# Altium schematic symbol library Converter_ACDC.SchLib: 137 symbols (part 1 of 2)
Pins are listed as number, name and electrical type; pins without a type are passive.

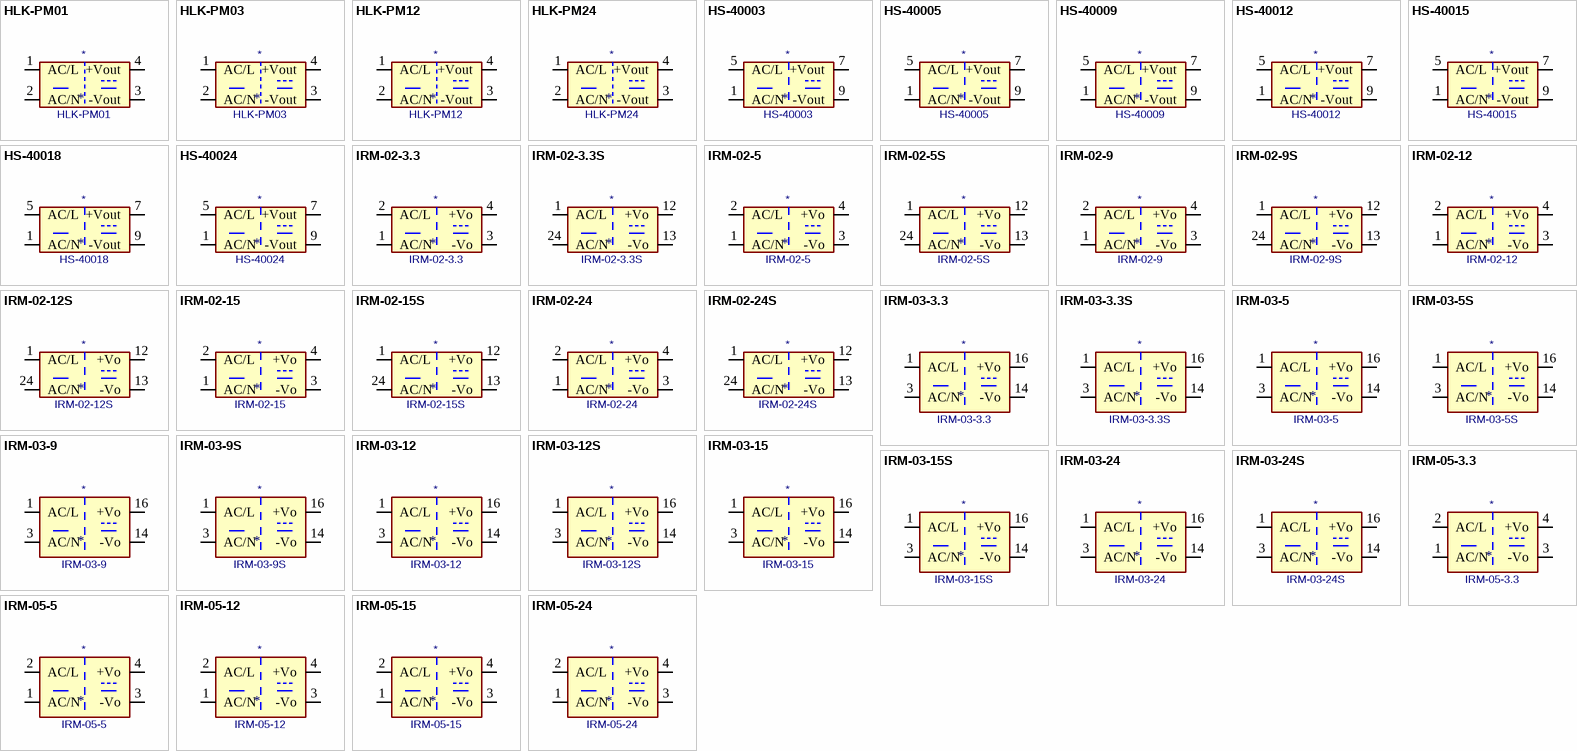
[diagram p0: symbols HLK-PM01 to IRM-05-24]

## HLK-PM01
designator *  value HLK-PM01
ki_keywords: AC/DC module power supply; ki_description: Compact AC/DC board mount power module 3W 5V; ki_fp_filters: Converter*ACDC*HiLink*HLK?PM*; Footprint: Converter_ACDC:Converter_ACDC_HiLink_HLK-PMxx; Supplier: http://www.hlktech.net/product_detail.php?ProId=54
footprint Converter_ACDC_HiLink_HLK-PMxx
pins: 1 AC/L (power), 2 AC/N (power), 3 -Vout (power), 4 +Vout (power)

## HLK-PM03
designator *  value HLK-PM03
ki_keywords: AC/DC module power supply; ki_description: Compact AC/DC board mount power module 3W 3V3; ki_fp_filters: Converter*ACDC*HiLink*HLK?PM*; Footprint: Converter_ACDC:Converter_ACDC_HiLink_HLK-PMxx; Supplier: http://www.hlktech.net/product_detail.php?ProId=59
footprint Converter_ACDC_HiLink_HLK-PMxx
pins: 1 AC/L (power), 2 AC/N (power), 3 -Vout (power), 4 +Vout (power)

## HLK-PM12
designator *  value HLK-PM12
ki_keywords: AC/DC module power supply; ki_description: Compact AC/DC board mount power module 3W 12V; ki_fp_filters: Converter*ACDC*HiLink*HLK?PM*; Footprint: Converter_ACDC:Converter_ACDC_HiLink_HLK-PMxx; Supplier: http://www.hlktech.net/product_detail.php?ProId=56
footprint Converter_ACDC_HiLink_HLK-PMxx
pins: 1 AC/L (power), 2 AC/N (power), 3 -Vout (power), 4 +Vout (power)

## HLK-PM24
designator *  value HLK-PM24
ki_keywords: AC/DC module power supply; ki_description: Compact AC/DC board mount power module 3W 24V; ki_fp_filters: Converter*ACDC*HiLink*HLK?PM*; Footprint: Converter_ACDC:Converter_ACDC_HiLink_HLK-PMxx; Supplier: http://www.hlktech.net/product_detail.php?ProId=81
footprint Converter_ACDC_HiLink_HLK-PMxx
pins: 1 AC/L (power), 2 AC/N (power), 3 -Vout (power), 4 +Vout (power)

## HS-40003
designator *  value HS-40003
ki_keywords: 3.3V 3W AC-DC module power supply; ki_description: 3.3V, 3W, AC-DC module power supply, Hahn; ki_fp_filters: Converter*ACDC*Hahn*HS*400xx*; Footprint: Converter_ACDC:Converter_ACDC_Hahn_HS-400xx_THT; Supplier: http://www.tme.eu/de/Document/d4b3c52125889c3435af182c9515c76b/HS40003.pdf
footprint Converter_ACDC_Hahn_HS-400xx_THT
pins: 1 AC/N (power), 5 AC/L (power), 7 +Vout (power), 9 -Vout (power)

## HS-40005
designator *  value HS-40005
ki_keywords: 5V 3W AC-DC module power supply; ki_description: 5V, 3W, AC-DC module power supply, Hahn; ki_fp_filters: Converter*ACDC*Hahn*HS*400xx*; Footprint: Converter_ACDC:Converter_ACDC_Hahn_HS-400xx_THT; Supplier: http://www.tme.eu/de/Document/996b08915f81126361ce1f9c12d2f8b9/HS40005.pdf
footprint Converter_ACDC_Hahn_HS-400xx_THT
pins: 1 AC/N (power), 5 AC/L (power), 7 +Vout (power), 9 -Vout (power)

## HS-40009
designator *  value HS-40009
ki_keywords: 9V 3W AC-DC module power supply; ki_description: 9V, 3W, AC-DC module power supply, Hahn; ki_fp_filters: Converter*ACDC*Hahn*HS*400xx*; Footprint: Converter_ACDC:Converter_ACDC_Hahn_HS-400xx_THT; Supplier: http://www.tme.eu/de/Document/cd3ff0c74e0c3bb183174aa10baf8730/HS40009.pdf
footprint Converter_ACDC_Hahn_HS-400xx_THT
pins: 1 AC/N (power), 5 AC/L (power), 7 +Vout (power), 9 -Vout (power)

## HS-40012
designator *  value HS-40012
ki_keywords: 12V 3W AC-DC module power supply; ki_description: 12V, 3W, AC-DC module power supply, Hahn; ki_fp_filters: Converter*ACDC*Hahn*HS*400xx*; Footprint: Converter_ACDC:Converter_ACDC_Hahn_HS-400xx_THT; Supplier: http://www.tme.eu/de/Document/221b247820f4fbb72e0cbc1ee10acb85/HS40012.pdf
footprint Converter_ACDC_Hahn_HS-400xx_THT
pins: 1 AC/N (power), 5 AC/L (power), 7 +Vout (power), 9 -Vout (power)

## HS-40015
designator *  value HS-40015
ki_keywords: 15V 3W AC-DC module power supply; ki_description: 15V, 3W, AC-DC module power supply, Hahn; ki_fp_filters: Converter*ACDC*Hahn*HS*400xx*; Footprint: Converter_ACDC:Converter_ACDC_Hahn_HS-400xx_THT; Supplier: https://www.schukat.com/schukat/pdf.nsf/index/956F3869A8D071A1C1257B810041B129/$file/HS-40015-Serie%20Schemazeichnung-A3%20(1).pdf
footprint Converter_ACDC_Hahn_HS-400xx_THT
pins: 1 AC/N (power), 5 AC/L (power), 7 +Vout (power), 9 -Vout (power)

## HS-40018
designator *  value HS-40018
ki_keywords: 18V 3W AC-DC module power supply; ki_description: 18V, 3W, AC-DC module power supply, Hahn; ki_fp_filters: Converter*ACDC*Hahn*HS*400xx*; Footprint: Converter_ACDC:Converter_ACDC_Hahn_HS-400xx_THT; Supplier: https://www.schukat.com/schukat/pdf.nsf/index/6A4EEAC16DA84B74C1257B810041DC7B/$file/HS-40018-Serie%20Schemazeichnung-A3%20(1).pdf
footprint Converter_ACDC_Hahn_HS-400xx_THT
pins: 1 AC/N (power), 5 AC/L (power), 7 +Vout (power), 9 -Vout (power)

## HS-40024
designator *  value HS-40024
ki_keywords: 24V 3W AC-DC module power supply; ki_description: 24V, 3W, AC-DC module power supply, Hahn; ki_fp_filters: Converter*ACDC*Hahn*HS*400xx*; Footprint: Converter_ACDC:Converter_ACDC_Hahn_HS-400xx_THT; Supplier: https://www.schukat.com/schukat/pdf.nsf/index/17647BA7403E2D39C1257B810041F34E/$file/HS-40024-Serie%20Schemazeichnung-A3%20(1).pdf
footprint Converter_ACDC_Hahn_HS-400xx_THT
pins: 1 AC/N (power), 5 AC/L (power), 7 +Vout (power), 9 -Vout (power)

## IRM-02-3.3
designator *  value IRM-02-3.3
ki_keywords: Miniature Module-type Power Supply MeanWell; ki_description: 3.3V, 600mA, 2W, Isolated, AC-DC, IRM02; ki_fp_filters: Converter*ACDC*MeanWell*IRM*02*THT*; Footprint: Converter_ACDC:Converter_ACDC_MeanWell_IRM-02-xx_THT; Supplier: https://www.meanwell.com/Upload/PDF/IRM-02/IRM-02-SPEC.PDF
footprint Converter_ACDC_MeanWell_IRM-02-xx_THT
pins: 1 AC/N (power), 2 AC/L (power), 3 -Vo (power), 4 +Vo (power)

## IRM-02-3.3S
designator *  value IRM-02-3.3S
ki_keywords: Miniature Module-type Power Supply MeanWell; ki_description: 3.3V, 600mA, 2W, Isolated, AC-DC, IRM02-SMD; ki_fp_filters: Converter*ACDC*MeanWell*IRM*02*SMD*; Footprint: Converter_ACDC:Converter_ACDC_MeanWell_IRM-02-xx_SMD; Supplier: https://www.meanwell.com/Upload/PDF/IRM-02/IRM-02-SPEC.PDF
footprint Converter_ACDC_MeanWell_IRM-02-xx_SMD
pins: 1 AC/L (power), 12 +Vo (power), 13 -Vo (power), 24 AC/N (power)

## IRM-02-5
designator *  value IRM-02-5
ki_keywords: Miniature Module-type Power Supply MeanWell; ki_description: 5V, 400mA, 2W, Isolated, AC-DC, IRM02; ki_fp_filters: Converter*ACDC*MeanWell*IRM*02*THT*; Footprint: Converter_ACDC:Converter_ACDC_MeanWell_IRM-02-xx_THT; Supplier: https://www.meanwell.com/Upload/PDF/IRM-02/IRM-02-SPEC.PDF
footprint Converter_ACDC_MeanWell_IRM-02-xx_THT
pins: 1 AC/N (power), 2 AC/L (power), 3 -Vo (power), 4 +Vo (power)

## IRM-02-5S
designator *  value IRM-02-5S
ki_keywords: Miniature Module-type Power Supply MeanWell; ki_description: 5V, 400mA, 2W, Isolated, AC-DC, IRM02-SMD; ki_fp_filters: Converter*ACDC*MeanWell*IRM*02*SMD*; Footprint: Converter_ACDC:Converter_ACDC_MeanWell_IRM-02-xx_SMD; Supplier: https://www.meanwell.com/Upload/PDF/IRM-02/IRM-02-SPEC.PDF
footprint Converter_ACDC_MeanWell_IRM-02-xx_SMD
pins: 1 AC/L (power), 12 +Vo (power), 13 -Vo (power), 24 AC/N (power)

## IRM-02-9
designator *  value IRM-02-9
ki_keywords: Miniature Module-type Power Supply MeanWell; ki_description: 9V, 222mA, 2W, Isolated, AC-DC, IRM02; ki_fp_filters: Converter*ACDC*MeanWell*IRM*02*THT*; Footprint: Converter_ACDC:Converter_ACDC_MeanWell_IRM-02-xx_THT; Supplier: https://www.meanwell.com/Upload/PDF/IRM-02/IRM-02-SPEC.PDF
footprint Converter_ACDC_MeanWell_IRM-02-xx_THT
pins: 1 AC/N (power), 2 AC/L (power), 3 -Vo (power), 4 +Vo (power)

## IRM-02-9S
designator *  value IRM-02-9S
ki_keywords: Miniature Module-type Power Supply MeanWell; ki_description: 9V, 222mA, 2W, Isolated, AC-DC, IRM02-SMD; ki_fp_filters: Converter*ACDC*MeanWell*IRM*02*SMD*; Footprint: Converter_ACDC:Converter_ACDC_MeanWell_IRM-02-xx_SMD; Supplier: https://www.meanwell.com/Upload/PDF/IRM-02/IRM-02-SPEC.PDF
footprint Converter_ACDC_MeanWell_IRM-02-xx_SMD
pins: 1 AC/L (power), 12 +Vo (power), 13 -Vo (power), 24 AC/N (power)

## IRM-02-12
designator *  value IRM-02-12
ki_keywords: Miniature Module-type Power Supply MeanWell; ki_description: 12V, 167mA, 2W, Isolated, AC-DC, IRM02; ki_fp_filters: Converter*ACDC*MeanWell*IRM*02*THT*; Footprint: Converter_ACDC:Converter_ACDC_MeanWell_IRM-02-xx_THT; Supplier: https://www.meanwell.com/Upload/PDF/IRM-02/IRM-02-SPEC.PDF
footprint Converter_ACDC_MeanWell_IRM-02-xx_THT
pins: 1 AC/N (power), 2 AC/L (power), 3 -Vo (power), 4 +Vo (power)

## IRM-02-12S
designator *  value IRM-02-12S
ki_keywords: Miniature Module-type Power Supply MeanWell; ki_description: 12V, 167mA, 2W, Isolated, AC-DC, IRM02-SMD; ki_fp_filters: Converter*ACDC*MeanWell*IRM*02*SMD*; Footprint: Converter_ACDC:Converter_ACDC_MeanWell_IRM-02-xx_SMD; Supplier: https://www.meanwell.com/Upload/PDF/IRM-02/IRM-02-SPEC.PDF
footprint Converter_ACDC_MeanWell_IRM-02-xx_SMD
pins: 1 AC/L (power), 12 +Vo (power), 13 -Vo (power), 24 AC/N (power)

## IRM-02-15
designator *  value IRM-02-15
ki_keywords: Miniature Module-type Power Supply MeanWell; ki_description: 15V, 133mA, 2W, Isolated, AC-DC, IRM02; ki_fp_filters: Converter*ACDC*MeanWell*IRM*02*THT*; Footprint: Converter_ACDC:Converter_ACDC_MeanWell_IRM-02-xx_THT; Supplier: https://www.meanwell.com/Upload/PDF/IRM-02/IRM-02-SPEC.PDF
footprint Converter_ACDC_MeanWell_IRM-02-xx_THT
pins: 1 AC/N (power), 2 AC/L (power), 3 -Vo (power), 4 +Vo (power)

## IRM-02-15S
designator *  value IRM-02-15S
ki_keywords: Miniature Module-type Power Supply MeanWell; ki_description: 15V, 133mA, 2W, Isolated, AC-DC, IRM02-SMD; ki_fp_filters: Converter*ACDC*MeanWell*IRM*02*SMD*; Footprint: Converter_ACDC:Converter_ACDC_MeanWell_IRM-02-xx_SMD; Supplier: https://www.meanwell.com/Upload/PDF/IRM-02/IRM-02-SPEC.PDF
footprint Converter_ACDC_MeanWell_IRM-02-xx_SMD
pins: 1 AC/L (power), 12 +Vo (power), 13 -Vo (power), 24 AC/N (power)

## IRM-02-24
designator *  value IRM-02-24
ki_keywords: Miniature Module-type Power Supply MeanWell; ki_description: 24V, 83mA, 2W, Isolated, AC-DC, IRM02; ki_fp_filters: Converter*ACDC*MeanWell*IRM*02*THT*; Footprint: Converter_ACDC:Converter_ACDC_MeanWell_IRM-02-xx_THT; Supplier: https://www.meanwell.com/Upload/PDF/IRM-02/IRM-02-SPEC.PDF
footprint Converter_ACDC_MeanWell_IRM-02-xx_THT
pins: 1 AC/N (power), 2 AC/L (power), 3 -Vo (power), 4 +Vo (power)

## IRM-02-24S
designator *  value IRM-02-24S
ki_keywords: Miniature Module-type Power Supply MeanWell; ki_description: 24V, 83mA, 2W, Isolated, AC-DC, IRM02-SMD; ki_fp_filters: Converter*ACDC*MeanWell*IRM*02*SMD*; Footprint: Converter_ACDC:Converter_ACDC_MeanWell_IRM-02-xx_SMD; Supplier: https://www.meanwell.com/Upload/PDF/IRM-02/IRM-02-SPEC.PDF
footprint Converter_ACDC_MeanWell_IRM-02-xx_SMD
pins: 1 AC/L (power), 12 +Vo (power), 13 -Vo (power), 24 AC/N (power)

## IRM-03-3.3
designator *  value IRM-03-3.3
ki_keywords: Miniature Module-type Power Supply MeanWell; ki_description: 3.3V, 900mA, 3W, Isolated, AC-DC, IRM03; ki_fp_filters: Converter*ACDC*MeanWell*IRM*03*THT*; Footprint: Converter_ACDC:Converter_ACDC_MeanWell_IRM-03-xx_THT; Supplier: https://www.meanwell.com/Upload/PDF/IRM-03/IRM-03-SPEC.PDF
footprint Converter_ACDC_MeanWell_IRM-03-xx_THT
pins: 1 AC/L (power), 3 AC/N (power), 5 NC (in) hidden, 14 -Vo (power), 16 +Vo (power)

## IRM-03-3.3S
designator *  value IRM-03-3.3S
ki_keywords: Miniature Module-type Power Supply MeanWell; ki_description: 3.3V, 900mA, 3W, Isolated, AC-DC, IRM03-SMD; ki_fp_filters: Converter*ACDC*MeanWell*IRM*03*SMD*; Footprint: Converter_ACDC:Converter_ACDC_MeanWell_IRM-03-xx_SMD; Supplier: https://www.meanwell.com/Upload/PDF/IRM-03/IRM-03-SPEC.PDF
footprint Converter_ACDC_MeanWell_IRM-03-xx_SMD
pins: 1 AC/L (power), 3 AC/N (power), 14 -Vo (power), 16 +Vo (power)

## IRM-03-5
designator *  value IRM-03-5
ki_keywords: Miniature Module-type Power Supply MeanWell; ki_description: 5V, 600mA, 3W, Isolated, AC-DC, IRM03; ki_fp_filters: Converter*ACDC*MeanWell*IRM*03*THT*; Footprint: Converter_ACDC:Converter_ACDC_MeanWell_IRM-03-xx_THT; Supplier: https://www.meanwell.com/Upload/PDF/IRM-03/IRM-03-SPEC.PDF
footprint Converter_ACDC_MeanWell_IRM-03-xx_THT
pins: 1 AC/L (power), 3 AC/N (power), 5 NC (in) hidden, 14 -Vo (power), 16 +Vo (power)

## IRM-03-5S
designator *  value IRM-03-5S
ki_keywords: Miniature Module-type Power Supply MeanWell; ki_description: 5V, 600mA, 3W, Isolated, AC-DC, IRM03-SMD; ki_fp_filters: Converter*ACDC*MeanWell*IRM*03*SMD*; Footprint: Converter_ACDC:Converter_ACDC_MeanWell_IRM-03-xx_SMD; Supplier: https://www.meanwell.com/Upload/PDF/IRM-03/IRM-03-SPEC.PDF
footprint Converter_ACDC_MeanWell_IRM-03-xx_SMD
pins: 1 AC/L (power), 3 AC/N (power), 14 -Vo (power), 16 +Vo (power)

## IRM-03-9
designator *  value IRM-03-9
ki_keywords: Miniature Module-type Power Supply MeanWell; ki_description: 9V, 333mA, 3W, Isolated, AC-DC, IRM03; ki_fp_filters: Converter*ACDC*MeanWell*IRM*03*THT*; Footprint: Converter_ACDC:Converter_ACDC_MeanWell_IRM-03-xx_THT; Supplier: https://www.meanwell.com/Upload/PDF/IRM-03/IRM-03-SPEC.PDF
footprint Converter_ACDC_MeanWell_IRM-03-xx_THT
pins: 1 AC/L (power), 3 AC/N (power), 5 NC (in) hidden, 14 -Vo (power), 16 +Vo (power)

## IRM-03-9S
designator *  value IRM-03-9S
ki_keywords: Miniature Module-type Power Supply MeanWell; ki_description: 9V, 333mA, 3W, Isolated, AC-DC, IRM03-SMD; ki_fp_filters: Converter*ACDC*MeanWell*IRM*03*SMD*; Footprint: Converter_ACDC:Converter_ACDC_MeanWell_IRM-03-xx_SMD; Supplier: https://www.meanwell.com/Upload/PDF/IRM-03/IRM-03-SPEC.PDF
footprint Converter_ACDC_MeanWell_IRM-03-xx_SMD
pins: 1 AC/L (power), 3 AC/N (power), 14 -Vo (power), 16 +Vo (power)

## IRM-03-12
designator *  value IRM-03-12
ki_keywords: Miniature Module-type Power Supply MeanWell; ki_description: 12V, 250mA, 3W, Isolated, AC-DC, IRM03; ki_fp_filters: Converter*ACDC*MeanWell*IRM*03*THT*; Footprint: Converter_ACDC:Converter_ACDC_MeanWell_IRM-03-xx_THT; Supplier: https://www.meanwell.com/Upload/PDF/IRM-03/IRM-03-SPEC.PDF
footprint Converter_ACDC_MeanWell_IRM-03-xx_THT
pins: 1 AC/L (power), 3 AC/N (power), 5 NC (in) hidden, 14 -Vo (power), 16 +Vo (power)

## IRM-03-12S
designator *  value IRM-03-12S
ki_keywords: Miniature Module-type Power Supply MeanWell; ki_description: 12V, 250mA, 3W, Isolated, AC-DC, IRM03-SMD; ki_fp_filters: Converter*ACDC*MeanWell*IRM*03*SMD*; Footprint: Converter_ACDC:Converter_ACDC_MeanWell_IRM-03-xx_SMD; Supplier: https://www.meanwell.com/Upload/PDF/IRM-03/IRM-03-SPEC.PDF
footprint Converter_ACDC_MeanWell_IRM-03-xx_SMD
pins: 1 AC/L (power), 3 AC/N (power), 14 -Vo (power), 16 +Vo (power)

## IRM-03-15
designator *  value IRM-03-15
ki_keywords: Miniature Module-type Power Supply MeanWell; ki_description: 15V, 200mA, 3W, Isolated, AC-DC, IRM03; ki_fp_filters: Converter*ACDC*MeanWell*IRM*03*THT*; Footprint: Converter_ACDC:Converter_ACDC_MeanWell_IRM-03-xx_THT; Supplier: https://www.meanwell.com/Upload/PDF/IRM-03/IRM-03-SPEC.PDF
footprint Converter_ACDC_MeanWell_IRM-03-xx_THT
pins: 1 AC/L (power), 3 AC/N (power), 5 NC (in) hidden, 14 -Vo (power), 16 +Vo (power)

## IRM-03-15S
designator *  value IRM-03-15S
ki_keywords: Miniature Module-type Power Supply MeanWell; ki_description: 15V, 200mA, 3W, Isolated, AC-DC, IRM03-SMD; ki_fp_filters: Converter*ACDC*MeanWell*IRM*03*SMD*; Footprint: Converter_ACDC:Converter_ACDC_MeanWell_IRM-03-xx_SMD; Supplier: https://www.meanwell.com/Upload/PDF/IRM-03/IRM-03-SPEC.PDF
footprint Converter_ACDC_MeanWell_IRM-03-xx_SMD
pins: 1 AC/L (power), 3 AC/N (power), 14 -Vo (power), 16 +Vo (power)

## IRM-03-24
designator *  value IRM-03-24
ki_keywords: Miniature Module-type Power Supply MeanWell; ki_description: 24V, 125mA, 3W, Isolated, AC-DC, IRM03; ki_fp_filters: Converter*ACDC*MeanWell*IRM*03*THT*; Footprint: Converter_ACDC:Converter_ACDC_MeanWell_IRM-03-xx_THT; Supplier: https://www.meanwell.com/Upload/PDF/IRM-03/IRM-03-SPEC.PDF
footprint Converter_ACDC_MeanWell_IRM-03-xx_THT
pins: 1 AC/L (power), 3 AC/N (power), 5 NC (in) hidden, 14 -Vo (power), 16 +Vo (power)

## IRM-03-24S
designator *  value IRM-03-24S
ki_keywords: Miniature Module-type Power Supply MeanWell; ki_description: 24V, 125mA, 3W, Isolated, AC-DC, IRM03-SMD; ki_fp_filters: Converter*ACDC*MeanWell*IRM*03*SMD*; Footprint: Converter_ACDC:Converter_ACDC_MeanWell_IRM-03-xx_SMD; Supplier: https://www.meanwell.com/Upload/PDF/IRM-03/IRM-03-SPEC.PDF
footprint Converter_ACDC_MeanWell_IRM-03-xx_SMD
pins: 1 AC/L (power), 3 AC/N (power), 14 -Vo (power), 16 +Vo (power)

## IRM-05-3.3
designator *  value IRM-05-3.3
ki_keywords: Miniature Module-type Power Supply MeanWell; ki_description: 3.3V, 1.25A, 4.125W, Isolated, AC-DC, 222A(IRM05); ki_fp_filters: Converter*ACDC*MeanWell*IRM*05*THT*; Footprint: Converter_ACDC:Converter_ACDC_MeanWell_IRM-05-xx_THT; Supplier: https://www.meanwell.com/Upload/PDF/IRM-05/IRM-05-SPEC.PDF
footprint Converter_ACDC_MeanWell_IRM-05-xx_THT
pins: 1 AC/N (power), 2 AC/L (power), 3 -Vo (power), 4 +Vo (power)

## IRM-05-5
designator *  value IRM-05-5
ki_keywords: Miniature Module-type Power Supply MeanWell; ki_description: 5V, 1A, 5W, Isolated, AC-DC, 222A(IRM05); ki_fp_filters: Converter*ACDC*MeanWell*IRM*05*THT*; Footprint: Converter_ACDC:Converter_ACDC_MeanWell_IRM-05-xx_THT; Supplier: https://www.meanwell.com/Upload/PDF/IRM-05/IRM-05-SPEC.PDF
footprint Converter_ACDC_MeanWell_IRM-05-xx_THT
pins: 1 AC/N (power), 2 AC/L (power), 3 -Vo (power), 4 +Vo (power)

## IRM-05-12
designator *  value IRM-05-12
ki_keywords: Miniature Module-type Power Supply MeanWell; ki_description: 12V, 420mA, 5.04W, Isolated, AC-DC, 222A(IRM05); ki_fp_filters: Converter*ACDC*MeanWell*IRM*05*THT*; Footprint: Converter_ACDC:Converter_ACDC_MeanWell_IRM-05-xx_THT; Supplier: https://www.meanwell.com/Upload/PDF/IRM-05/IRM-05-SPEC.PDF
footprint Converter_ACDC_MeanWell_IRM-05-xx_THT
pins: 1 AC/N (power), 2 AC/L (power), 3 -Vo (power), 4 +Vo (power)

## IRM-05-15
designator *  value IRM-05-15
ki_keywords: Miniature Module-type Power Supply MeanWell; ki_description: 15V, 330mA, 4.95W, Isolated, AC-DC, 222A(IRM05); ki_fp_filters: Converter*ACDC*MeanWell*IRM*05*THT*; Footprint: Converter_ACDC:Converter_ACDC_MeanWell_IRM-05-xx_THT; Supplier: https://www.meanwell.com/Upload/PDF/IRM-05/IRM-05-SPEC.PDF
footprint Converter_ACDC_MeanWell_IRM-05-xx_THT
pins: 1 AC/N (power), 2 AC/L (power), 3 -Vo (power), 4 +Vo (power)

## IRM-05-24
designator *  value IRM-05-24
ki_keywords: Miniature Module-type Power Supply MeanWell; ki_description: 24V, 230mA, 5.52W, Isolated, AC-DC, 222A(IRM05); ki_fp_filters: Converter*ACDC*MeanWell*IRM*05*THT*; Footprint: Converter_ACDC:Converter_ACDC_MeanWell_IRM-05-xx_THT; Supplier: https://www.meanwell.com/Upload/PDF/IRM-05/IRM-05-SPEC.PDF
footprint Converter_ACDC_MeanWell_IRM-05-xx_THT
pins: 1 AC/N (power), 2 AC/L (power), 3 -Vo (power), 4 +Vo (power)

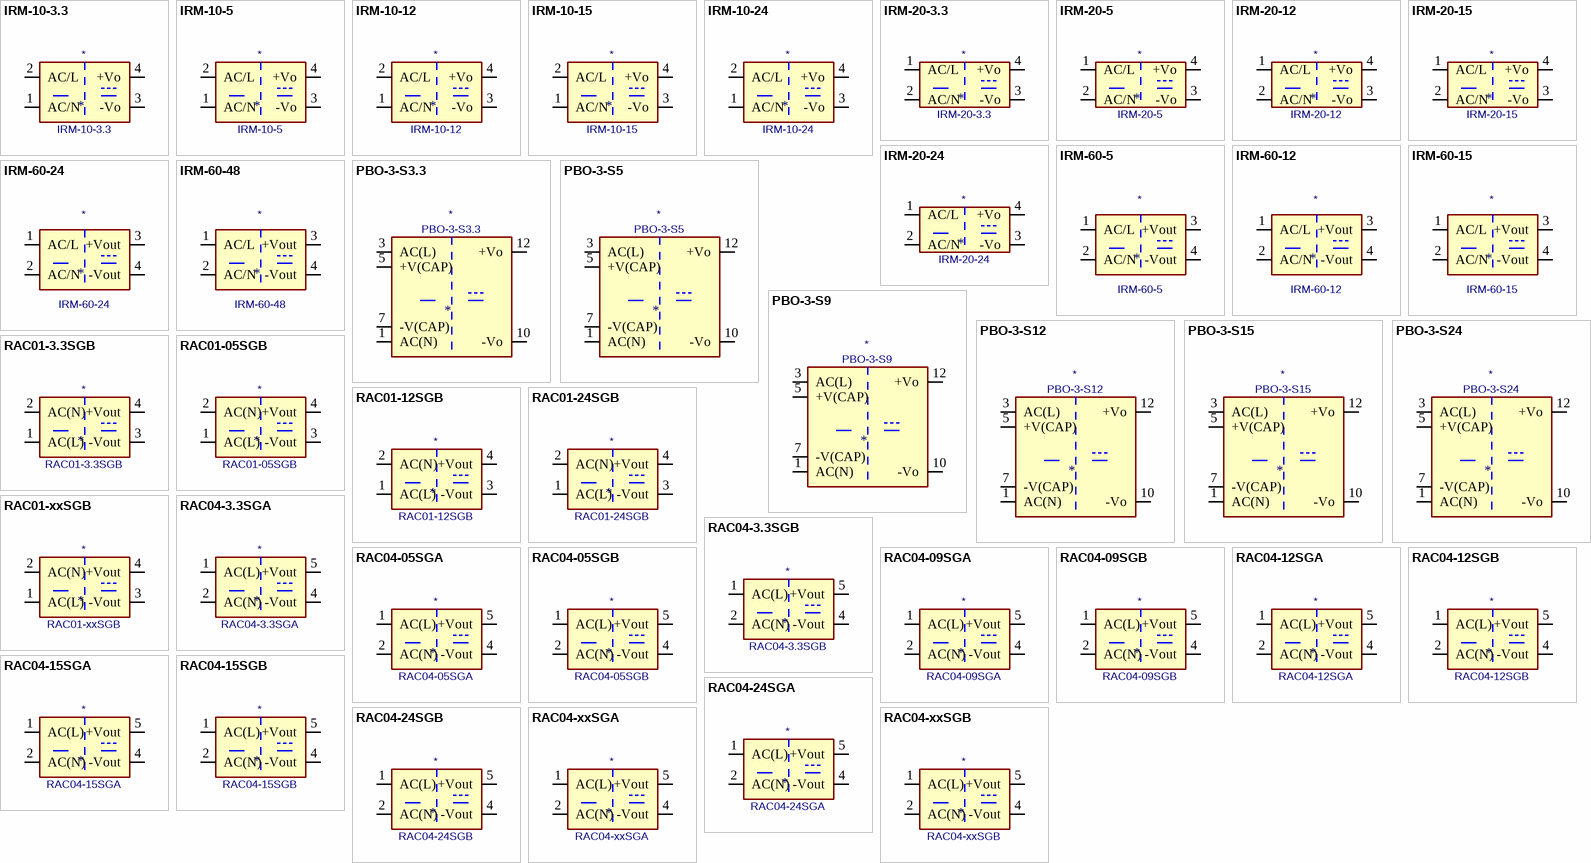
[diagram p1: symbols IRM-10-3.3 to RAC04-xxSGB]

## IRM-10-3.3
designator *  value IRM-10-3.3
ki_keywords: Miniature Module-type Power Supply MeanWell; ki_description: 3.3V, 2.5A, 8.25W, Isolated, AC-DC, 222A(IRM10); ki_fp_filters: Converter*ACDC*MeanWell*IRM*10*THT*; Footprint: Converter_ACDC:Converter_ACDC_MeanWell_IRM-10-xx_THT; Supplier: https://www.meanwell.com/Upload/PDF/IRM-10/IRM-10-SPEC.PDF
footprint Converter_ACDC_MeanWell_IRM-10-xx_THT
pins: 1 AC/N (power), 2 AC/L (power), 3 -Vo (power), 4 +Vo (power)

## IRM-10-5
designator *  value IRM-10-5
ki_keywords: Miniature Module-type Power Supply MeanWell; ki_description: 5V, 2A, 10W, Isolated, AC-DC, 222A(IRM10); ki_fp_filters: Converter*ACDC*MeanWell*IRM*10*THT*; Footprint: Converter_ACDC:Converter_ACDC_MeanWell_IRM-10-xx_THT; Supplier: https://www.meanwell.com/Upload/PDF/IRM-10/IRM-10-SPEC.PDF
footprint Converter_ACDC_MeanWell_IRM-10-xx_THT
pins: 1 AC/N (power), 2 AC/L (power), 3 -Vo (power), 4 +Vo (power)

## IRM-10-12
designator *  value IRM-10-12
ki_keywords: Miniature Module-type Power Supply MeanWell; ki_description: 12V, 850mA, 10.2W, Isolated, AC-DC, 222A(IRM10); ki_fp_filters: Converter*ACDC*MeanWell*IRM*10*THT*; Footprint: Converter_ACDC:Converter_ACDC_MeanWell_IRM-10-xx_THT; Supplier: https://www.meanwell.com/Upload/PDF/IRM-10/IRM-10-SPEC.PDF
footprint Converter_ACDC_MeanWell_IRM-10-xx_THT
pins: 1 AC/N (power), 2 AC/L (power), 3 -Vo (power), 4 +Vo (power)

## IRM-10-15
designator *  value IRM-10-15
ki_keywords: Miniature Module-type Power Supply MeanWell; ki_description: 15V, 670mA, 10.05W, Isolated, AC-DC, 222A(IRM10); ki_fp_filters: Converter*ACDC*MeanWell*IRM*10*THT*; Footprint: Converter_ACDC:Converter_ACDC_MeanWell_IRM-10-xx_THT; Supplier: https://www.meanwell.com/Upload/PDF/IRM-10/IRM-10-SPEC.PDF
footprint Converter_ACDC_MeanWell_IRM-10-xx_THT
pins: 1 AC/N (power), 2 AC/L (power), 3 -Vo (power), 4 +Vo (power)

## IRM-10-24
designator *  value IRM-10-24
ki_keywords: Miniature Module-type Power Supply MeanWell; ki_description: 24V, 420mA, 10.08W, Isolated, AC-DC, 222A(IRM10); ki_fp_filters: Converter*ACDC*MeanWell*IRM*10*THT*; Footprint: Converter_ACDC:Converter_ACDC_MeanWell_IRM-10-xx_THT; Supplier: https://www.meanwell.com/Upload/PDF/IRM-10/IRM-10-SPEC.PDF
footprint Converter_ACDC_MeanWell_IRM-10-xx_THT
pins: 1 AC/N (power), 2 AC/L (power), 3 -Vo (power), 4 +Vo (power)

## IRM-20-3.3
designator *  value IRM-20-3.3
ki_keywords: Miniature Module-type Power Supply MeanWell; ki_description: 3.3V, 4.5A, 14.85W, Isolated, AC-DC, 219A(IRM20); ki_fp_filters: Converter*ACDC*MeanWell*IRM*20*THT*; Footprint: Converter_ACDC:Converter_ACDC_MeanWell_IRM-20-xx_THT; Supplier: http://www.meanwell.com/Upload/PDF/IRM-20/IRM-20-SPEC.PDF
footprint Converter_ACDC_MeanWell_IRM-20-xx_THT
pins: 1 AC/L (power), 2 AC/N (power), 3 -Vo (power), 4 +Vo (power)

## IRM-20-5
designator *  value IRM-20-5
ki_keywords: Miniature Module-type Power Supply MeanWell; ki_description: 5V, 4A, 20W, Isolated, AC-DC, 219A(IRM20); ki_fp_filters: Converter*ACDC*MeanWell*IRM*20*THT*; Footprint: Converter_ACDC:Converter_ACDC_MeanWell_IRM-20-xx_THT; Supplier: http://www.meanwell.com/Upload/PDF/IRM-20/IRM-20-SPEC.PDF
footprint Converter_ACDC_MeanWell_IRM-20-xx_THT
pins: 1 AC/L (power), 2 AC/N (power), 3 -Vo (power), 4 +Vo (power)

## IRM-20-12
designator *  value IRM-20-12
ki_keywords: Miniature Module-type Power Supply MeanWell; ki_description: 12V, 1.8A, 21.6W, Isolated, AC-DC, 219A(IRM20); ki_fp_filters: Converter*ACDC*MeanWell*IRM*20*THT*; Footprint: Converter_ACDC:Converter_ACDC_MeanWell_IRM-20-xx_THT; Supplier: http://www.meanwell.com/Upload/PDF/IRM-20/IRM-20-SPEC.PDF
footprint Converter_ACDC_MeanWell_IRM-20-xx_THT
pins: 1 AC/L (power), 2 AC/N (power), 3 -Vo (power), 4 +Vo (power)

## IRM-20-15
designator *  value IRM-20-15
ki_keywords: Miniature Module-type Power Supply MeanWell; ki_description: 15V, 1.4A, 21W, Isolated, AC-DC, 219A(IRM20); ki_fp_filters: Converter*ACDC*MeanWell*IRM*20*THT*; Footprint: Converter_ACDC:Converter_ACDC_MeanWell_IRM-20-xx_THT; Supplier: http://www.meanwell.com/Upload/PDF/IRM-20/IRM-20-SPEC.PDF
footprint Converter_ACDC_MeanWell_IRM-20-xx_THT
pins: 1 AC/L (power), 2 AC/N (power), 3 -Vo (power), 4 +Vo (power)

## IRM-20-24
designator *  value IRM-20-24
ki_keywords: Miniature Module-type Power Supply MeanWell; ki_description: 24V, 900mA, 21.6W, Isolated, AC-DC, 219A(IRM20); ki_fp_filters: Converter*ACDC*MeanWell*IRM*20*THT*; Footprint: Converter_ACDC:Converter_ACDC_MeanWell_IRM-20-xx_THT; Supplier: http://www.meanwell.com/Upload/PDF/IRM-20/IRM-20-SPEC.PDF
footprint Converter_ACDC_MeanWell_IRM-20-xx_THT
pins: 1 AC/L (power), 2 AC/N (power), 3 -Vo (power), 4 +Vo (power)

## IRM-60-5
designator *  value IRM-60-5
ki_keywords: Miniature Module-type Power Supply MeanWell; ki_description: 5V, 10A, 50W, Isolated, AC-DC, IRM60; ki_fp_filters: Converter*ACDC*MeanWell*IRM*60*THT*; Footprint: Converter_ACDC:Converter_ACDC_MeanWell_IRM-60-xx_THT; Supplier: http://www.meanwellusa.com/productPdf.aspx?i=687
footprint Converter_ACDC_MeanWell_IRM-60-xx_THT
pins: 1 AC/L (power), 2 AC/N (power), 3 +Vout (power), 4 -Vout (power)

## IRM-60-12
designator *  value IRM-60-12
ki_keywords: Miniature Module-type Power Supply MeanWell; ki_description: 12V, 5A, 60W, Isolated, AC-DC, IRM60; ki_fp_filters: Converter*ACDC*MeanWell*IRM*60*THT*; Footprint: Converter_ACDC:Converter_ACDC_MeanWell_IRM-60-xx_THT; Supplier: http://www.meanwellusa.com/productPdf.aspx?i=687
footprint Converter_ACDC_MeanWell_IRM-60-xx_THT
pins: 1 AC/L (power), 2 AC/N (power), 3 +Vout (power), 4 -Vout (power)

## IRM-60-15
designator *  value IRM-60-15
ki_keywords: Miniature Module-type Power Supply MeanWell; ki_description: 15V, 4A, 60W, Isolated, AC-DC, IRM60; ki_fp_filters: Converter*ACDC*MeanWell*IRM*60*THT*; Footprint: Converter_ACDC:Converter_ACDC_MeanWell_IRM-60-xx_THT; Supplier: http://www.meanwellusa.com/productPdf.aspx?i=687
footprint Converter_ACDC_MeanWell_IRM-60-xx_THT
pins: 1 AC/L (power), 2 AC/N (power), 3 +Vout (power), 4 -Vout (power)

## IRM-60-24
designator *  value IRM-60-24
ki_keywords: Miniature Module-type Power Supply MeanWell; ki_description: 24V, 2.5A, 60W, Isolated, AC-DC, IRM60; ki_fp_filters: Converter*ACDC*MeanWell*IRM*60*THT*; Footprint: Converter_ACDC:Converter_ACDC_MeanWell_IRM-60-xx_THT; Supplier: http://www.meanwellusa.com/productPdf.aspx?i=687
footprint Converter_ACDC_MeanWell_IRM-60-xx_THT
pins: 1 AC/L (power), 2 AC/N (power), 3 +Vout (power), 4 -Vout (power)

## IRM-60-48
designator *  value IRM-60-48
ki_keywords: Miniature Module-type Power Supply MeanWell; ki_description: 48V, 1.25A, 50W, Isolated, AC-DC, IRM60; ki_fp_filters: Converter*ACDC*MeanWell*IRM*60*THT*; Footprint: Converter_ACDC:Converter_ACDC_MeanWell_IRM-60-xx_THT; Supplier: http://www.meanwellusa.com/productPdf.aspx?i=687
footprint Converter_ACDC_MeanWell_IRM-60-xx_THT
pins: 1 AC/L (power), 2 AC/N (power), 3 +Vout (power), 4 -Vout (power)

## PBO-3-S3.3
designator *  value PBO-3-S3.3
ki_keywords: ac dc power supply; ki_description: 3.3V 0.6A 1.98W miniature AC-DC module-type power supply; ki_fp_filters: Converter*ACDC*CUI*PBO*3*Sxx*THT*; Footprint: Converter_ACDC:Converter_ACDC_CUI_PBO-3-Sxx_THT_Vertical; Supplier: https://www.cui.com/product/resource/pbo-3.pdf
footprint Converter_ACDC_CUI_PBO-3-Sxx_THT_Vertical
pins: 1 AC(N) (power), 3 AC(L) (power), 5 +V(CAP), 7 -V(CAP), 10 -Vo (power), 12 +Vo (power)

## PBO-3-S5
designator *  value PBO-3-S5
ki_keywords: ac dc power supply; ki_description: 5V 0.6A 3W miniature AC-DC module-type power supply; ki_fp_filters: Converter*ACDC*CUI*PBO*3*Sxx*THT*; Footprint: Converter_ACDC:Converter_ACDC_CUI_PBO-3-Sxx_THT_Vertical; Supplier: https://www.cui.com/product/resource/pbo-3.pdf
footprint Converter_ACDC_CUI_PBO-3-Sxx_THT_Vertical
pins: 1 AC(N) (power), 3 AC(L) (power), 5 +V(CAP), 7 -V(CAP), 10 -Vo (power), 12 +Vo (power)

## PBO-3-S9
designator *  value PBO-3-S9
ki_keywords: ac dc power supply; ki_description: 9V 0.333A 3W miniature AC-DC module-type power supply; ki_fp_filters: Converter*ACDC*CUI*PBO*3*Sxx*THT*; Footprint: Converter_ACDC:Converter_ACDC_CUI_PBO-3-Sxx_THT_Vertical; Supplier: https://www.cui.com/product/resource/pbo-3.pdf
footprint Converter_ACDC_CUI_PBO-3-Sxx_THT_Vertical
pins: 1 AC(N) (power), 3 AC(L) (power), 5 +V(CAP), 7 -V(CAP), 10 -Vo (power), 12 +Vo (power)

## PBO-3-S12
designator *  value PBO-3-S12
ki_keywords: ac dc power supply; ki_description: 12V 0.25A 3W miniature AC-DC module-type power supply; ki_fp_filters: Converter*ACDC*CUI*PBO*3*Sxx*THT*; Footprint: Converter_ACDC:Converter_ACDC_CUI_PBO-3-Sxx_THT_Vertical; Supplier: https://www.cui.com/product/resource/pbo-3.pdf
footprint Converter_ACDC_CUI_PBO-3-Sxx_THT_Vertical
pins: 1 AC(N) (power), 3 AC(L) (power), 5 +V(CAP), 7 -V(CAP), 10 -Vo (power), 12 +Vo (power)

## PBO-3-S15
designator *  value PBO-3-S15
ki_keywords: ac dc power supply; ki_description: 15V 0.2A 3W miniature AC-DC module-type power supply; ki_fp_filters: Converter*ACDC*CUI*PBO*3*Sxx*THT*; Footprint: Converter_ACDC:Converter_ACDC_CUI_PBO-3-Sxx_THT_Vertical; Supplier: https://www.cui.com/product/resource/pbo-3.pdf
footprint Converter_ACDC_CUI_PBO-3-Sxx_THT_Vertical
pins: 1 AC(N) (power), 3 AC(L) (power), 5 +V(CAP), 7 -V(CAP), 10 -Vo (power), 12 +Vo (power)

## PBO-3-S24
designator *  value PBO-3-S24
ki_keywords: ac dc power supply; ki_description: 24V 0.125A 3W miniature AC-DC module-type power supply; ki_fp_filters: Converter*ACDC*CUI*PBO*3*Sxx*THT*; Footprint: Converter_ACDC:Converter_ACDC_CUI_PBO-3-Sxx_THT_Vertical; Supplier: https://www.cui.com/product/resource/pbo-3.pdf
footprint Converter_ACDC_CUI_PBO-3-Sxx_THT_Vertical
pins: 1 AC(N) (power), 3 AC(L) (power), 5 +V(CAP), 7 -V(CAP), 10 -Vo (power), 12 +Vo (power)

## RAC01-3.3SGB
designator *  value RAC01-3.3SGB
ki_keywords: ac dc power supply; ki_description: 1 Watt Single Output EMC Class B AC/DC 3.3V 303mA power supply with regulated and short-circuit-proof isolated DC outputs and low standby power consumption.; ki_fp_filters: Converter*ACDC*RECOM*RAC01*SGB*THT*; Footprint: Converter_ACDC:Converter_ACDC_RECOM_RAC01-xxSGB_THT; Supplier: https://www.recom-power.com/pdf/Powerline-AC-DC/RAC01-GB.pdf
footprint Converter_ACDC_RECOM_RAC01-xxSGB_THT
pins: 1 AC(L) (power), 2 AC(N) (power), 3 -Vout (power), 4 +Vout (power)

## RAC01-05SGB
designator *  value RAC01-05SGB
ki_keywords: ac dc power supply; ki_description: 1 Watt Single Output EMC Class B AC/DC 5V 200mA power supply with regulated and short-circuit-proof isolated DC outputs and low standby power consumption.; ki_fp_filters: Converter*ACDC*RECOM*RAC01*SGB*THT*; Footprint: Converter_ACDC:Converter_ACDC_RECOM_RAC01-xxSGB_THT; Supplier: https://www.recom-power.com/pdf/Powerline-AC-DC/RAC01-GB.pdf
footprint Converter_ACDC_RECOM_RAC01-xxSGB_THT
pins: 1 AC(L) (power), 2 AC(N) (power), 3 -Vout (power), 4 +Vout (power)

## RAC01-12SGB
designator *  value RAC01-12SGB
ki_keywords: ac dc power supply; ki_description: 1 Watt Single Output EMC Class B AC/DC 12V 83mA power supply with regulated and short-circuit-proof isolated DC outputs and low standby power consumption.; ki_fp_filters: Converter*ACDC*RECOM*RAC01*SGB*THT*; Footprint: Converter_ACDC:Converter_ACDC_RECOM_RAC01-xxSGB_THT; Supplier: https://www.recom-power.com/pdf/Powerline-AC-DC/RAC01-GB.pdf
footprint Converter_ACDC_RECOM_RAC01-xxSGB_THT
pins: 1 AC(L) (power), 2 AC(N) (power), 3 -Vout (power), 4 +Vout (power)

## RAC01-24SGB
designator *  value RAC01-24SGB
ki_keywords: ac dc power supply; ki_description: 1 Watt Single Output EMC Class B AC/DC 24V 42mA power supply with regulated and short-circuit-proof isolated DC outputs and low standby power consumption.; ki_fp_filters: Converter*ACDC*RECOM*RAC01*SGB*THT*; Footprint: Converter_ACDC:Converter_ACDC_RECOM_RAC01-xxSGB_THT; Supplier: https://www.recom-power.com/pdf/Powerline-AC-DC/RAC01-GB.pdf
footprint Converter_ACDC_RECOM_RAC01-xxSGB_THT
pins: 1 AC(L) (power), 2 AC(N) (power), 3 -Vout (power), 4 +Vout (power)

## RAC01-xxSGB
designator *  value RAC01-xxSGB
ki_keywords: ac dc power supply; ki_description: 1 Watt Single Output EMC Class B AC/DC power supply with regulated and short-circuit-proof isolated DC outputs and low standby power consumption.; ki_fp_filters: Converter*ACDC*RECOM*RAC01*SGB*THT*; Footprint: Converter_ACDC:Converter_ACDC_RECOM_RAC01-xxSGB_THT; Supplier: https://www.recom-power.com/pdf/Powerline-AC-DC/RAC01-GB.pdf
footprint Converter_ACDC_RECOM_RAC01-xxSGB_THT
pins: 1 AC(L) (power), 2 AC(N) (power), 3 -Vout (power), 4 +Vout (power)

## RAC04-3.3SGA
designator *  value RAC04-3.3SGA
ki_keywords: ac dc power supply; ki_description: 4 Watt Single Output EMC Class A - 3.3V 1210mA; ki_fp_filters: Converter*ACDC*RECOM*RAC04*SG*; Footprint: Converter_ACDC:Converter_ACDC_RECOM_RAC04-xxSGx_THT; Supplier: https://www.recom-power.com/pdf/Powerline-AC-DC/RAC04-GA.pdf
footprint Converter_ACDC_RECOM_RAC04-xxSGx_THT
pins: 1 AC(L) (power), 2 AC(N) (power), 3 NC (in) hidden, 4 -Vout (power), 5 +Vout (power)

## RAC04-3.3SGB
designator *  value RAC04-3.3SGB
ki_keywords: ac dc power supply; ki_description: 4 Watt Single Output EMC Class B - 3.3V 1210mA; ki_fp_filters: Converter*ACDC*RECOM*RAC04*SG*; Footprint: Converter_ACDC:Converter_ACDC_RECOM_RAC04-xxSGx_THT; Supplier: https://www.recom-power.com/pdf/Powerline-AC-DC/RAC04-GB.pdf
footprint Converter_ACDC_RECOM_RAC04-xxSGx_THT
pins: 1 AC(L) (power), 2 AC(N) (power), 3 NC (in) hidden, 4 -Vout (power), 5 +Vout (power)

## RAC04-05SGA
designator *  value RAC04-05SGA
ki_keywords: ac dc power supply; ki_description: 4 Watt Single Output EMC Class A - 5V 800mA; ki_fp_filters: Converter*ACDC*RECOM*RAC04*SG*; Footprint: Converter_ACDC:Converter_ACDC_RECOM_RAC04-xxSGx_THT; Supplier: https://www.recom-power.com/pdf/Powerline-AC-DC/RAC04-GA.pdf
footprint Converter_ACDC_RECOM_RAC04-xxSGx_THT
pins: 1 AC(L) (power), 2 AC(N) (power), 3 NC (in) hidden, 4 -Vout (power), 5 +Vout (power)

## RAC04-05SGB
designator *  value RAC04-05SGB
ki_keywords: ac dc power supply; ki_description: 4 Watt Single Output EMC Class B - 5V 800mA; ki_fp_filters: Converter*ACDC*RECOM*RAC04*SG*; Footprint: Converter_ACDC:Converter_ACDC_RECOM_RAC04-xxSGx_THT; Supplier: https://www.recom-power.com/pdf/Powerline-AC-DC/RAC04-GB.pdf
footprint Converter_ACDC_RECOM_RAC04-xxSGx_THT
pins: 1 AC(L) (power), 2 AC(N) (power), 3 NC (in) hidden, 4 -Vout (power), 5 +Vout (power)

## RAC04-09SGA
designator *  value RAC04-09SGA
ki_keywords: ac dc power supply; ki_description: 4 Watt Single Output EMC Class A - 9V 440mA; ki_fp_filters: Converter*ACDC*RECOM*RAC04*SG*; Footprint: Converter_ACDC:Converter_ACDC_RECOM_RAC04-xxSGx_THT; Supplier: https://www.recom-power.com/pdf/Powerline-AC-DC/RAC04-GA.pdf
footprint Converter_ACDC_RECOM_RAC04-xxSGx_THT
pins: 1 AC(L) (power), 2 AC(N) (power), 3 NC (in) hidden, 4 -Vout (power), 5 +Vout (power)

## RAC04-09SGB
designator *  value RAC04-09SGB
ki_keywords: ac dc power supply; ki_description: 4 Watt Single Output EMC Class B - 9V 440mA; ki_fp_filters: Converter*ACDC*RECOM*RAC04*SG*; Footprint: Converter_ACDC:Converter_ACDC_RECOM_RAC04-xxSGx_THT; Supplier: https://www.recom-power.com/pdf/Powerline-AC-DC/RAC04-GB.pdf
footprint Converter_ACDC_RECOM_RAC04-xxSGx_THT
pins: 1 AC(L) (power), 2 AC(N) (power), 3 NC (in) hidden, 4 -Vout (power), 5 +Vout (power)

## RAC04-12SGA
designator *  value RAC04-12SGA
ki_keywords: ac dc power supply; ki_description: 4 Watt Single Output EMC Class A - 12V 330mA; ki_fp_filters: Converter*ACDC*RECOM*RAC04*SG*; Footprint: Converter_ACDC:Converter_ACDC_RECOM_RAC04-xxSGx_THT; Supplier: https://www.recom-power.com/pdf/Powerline-AC-DC/RAC04-GA.pdf
footprint Converter_ACDC_RECOM_RAC04-xxSGx_THT
pins: 1 AC(L) (power), 2 AC(N) (power), 3 NC (in) hidden, 4 -Vout (power), 5 +Vout (power)

## RAC04-12SGB
designator *  value RAC04-12SGB
ki_keywords: ac dc power supply; ki_description: 4 Watt Single Output EMC Class B - 12V 330mA; ki_fp_filters: Converter*ACDC*RECOM*RAC04*SG*; Footprint: Converter_ACDC:Converter_ACDC_RECOM_RAC04-xxSGx_THT; Supplier: https://www.recom-power.com/pdf/Powerline-AC-DC/RAC04-GB.pdf
footprint Converter_ACDC_RECOM_RAC04-xxSGx_THT
pins: 1 AC(L) (power), 2 AC(N) (power), 3 NC (in) hidden, 4 -Vout (power), 5 +Vout (power)

## RAC04-15SGA
designator *  value RAC04-15SGA
ki_keywords: ac dc power supply; ki_description: 4 Watt Single Output EMC Class A - 15V 270mA; ki_fp_filters: Converter*ACDC*RECOM*RAC04*SG*; Footprint: Converter_ACDC:Converter_ACDC_RECOM_RAC04-xxSGx_THT; Supplier: https://www.recom-power.com/pdf/Powerline-AC-DC/RAC04-GA.pdf
footprint Converter_ACDC_RECOM_RAC04-xxSGx_THT
pins: 1 AC(L) (power), 2 AC(N) (power), 3 NC (in) hidden, 4 -Vout (power), 5 +Vout (power)

## RAC04-15SGB
designator *  value RAC04-15SGB
ki_keywords: ac dc power supply; ki_description: 4 Watt Single Output EMC Class B - 15V 270mA; ki_fp_filters: Converter*ACDC*RECOM*RAC04*SG*; Footprint: Converter_ACDC:Converter_ACDC_RECOM_RAC04-xxSGx_THT; Supplier: https://www.recom-power.com/pdf/Powerline-AC-DC/RAC04-GB.pdf
footprint Converter_ACDC_RECOM_RAC04-xxSGx_THT
pins: 1 AC(L) (power), 2 AC(N) (power), 3 NC (in) hidden, 4 -Vout (power), 5 +Vout (power)

## RAC04-24SGA
designator *  value RAC04-24SGA
ki_keywords: ac dc power supply; ki_description: 4 Watt Single Output EMC Class A - 24V 170mA; ki_fp_filters: Converter*ACDC*RECOM*RAC04*SG*; Footprint: Converter_ACDC:Converter_ACDC_RECOM_RAC04-xxSGx_THT; Supplier: https://www.recom-power.com/pdf/Powerline-AC-DC/RAC04-GA.pdf
footprint Converter_ACDC_RECOM_RAC04-xxSGx_THT
pins: 1 AC(L) (power), 2 AC(N) (power), 3 NC (in) hidden, 4 -Vout (power), 5 +Vout (power)

## RAC04-24SGB
designator *  value RAC04-24SGB
ki_keywords: ac dc power supply; ki_description: 4 Watt Single Output EMC Class B - 24V 170mA; ki_fp_filters: Converter*ACDC*RECOM*RAC04*SG*; Footprint: Converter_ACDC:Converter_ACDC_RECOM_RAC04-xxSGx_THT; Supplier: https://www.recom-power.com/pdf/Powerline-AC-DC/RAC04-GB.pdf
footprint Converter_ACDC_RECOM_RAC04-xxSGx_THT
pins: 1 AC(L) (power), 2 AC(N) (power), 3 NC (in) hidden, 4 -Vout (power), 5 +Vout (power)

## RAC04-xxSGA
designator *  value RAC04-xxSGA
ki_keywords: ac dc power supply; ki_description: 4 Watt Single Output EMC Class A; ki_fp_filters: Converter*ACDC*RECOM*RAC04*SG*; Footprint: Converter_ACDC:Converter_ACDC_RECOM_RAC04-xxSGx_THT; Supplier: https://www.recom-power.com/pdf/Powerline-AC-DC/RAC04-GA.pdf
footprint Converter_ACDC_RECOM_RAC04-xxSGx_THT
pins: 1 AC(L) (power), 2 AC(N) (power), 3 NC (in) hidden, 4 -Vout (power), 5 +Vout (power)

## RAC04-xxSGB
designator *  value RAC04-xxSGB
ki_keywords: ac dc power supply; ki_description: 4 Watt Single Output EMC Class B; ki_fp_filters: Converter*ACDC*RECOM*RAC04*SG*; Footprint: Converter_ACDC:Converter_ACDC_RECOM_RAC04-xxSGx_THT; Supplier: https://www.recom-power.com/pdf/Powerline-AC-DC/RAC04-GB.pdf
footprint Converter_ACDC_RECOM_RAC04-xxSGx_THT
pins: 1 AC(L) (power), 2 AC(N) (power), 3 NC (in) hidden, 4 -Vout (power), 5 +Vout (power)

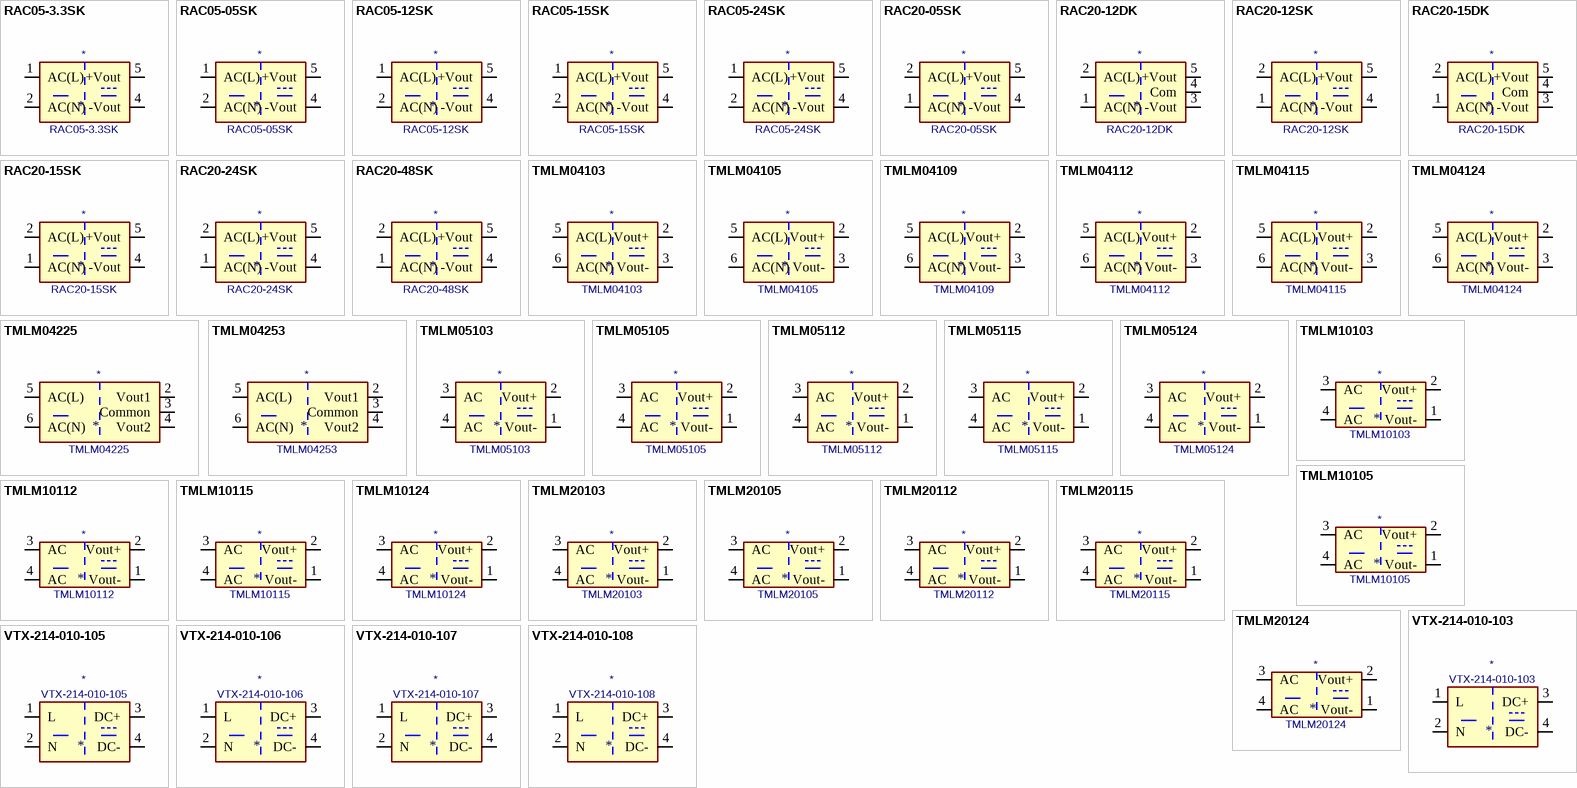
[diagram p2: symbols RAC05-3.3SK to VTX-214-010-108]

## RAC05-3.3SK
designator *  value RAC05-3.3SK
ki_keywords: ac dc power supply; ki_description: 5W Single Output EMC Class B 3.3V 1515mA; ki_fp_filters: Converter*ACDC*RECOM*RAC05*SK*; Footprint: Converter_ACDC:Converter_ACDC_RECOM_RAC05-xxSK_THT; Supplier: https://www.recom-power.com/pdf/Powerline-AC-DC/RAC05-K.pdf
footprint Converter_ACDC_RECOM_RAC05-xxSK_THT
pins: 1 AC(L) (power), 2 AC(N) (power), 3 NC (in) hidden, 4 -Vout (power), 5 +Vout (power)

## RAC05-05SK
designator *  value RAC05-05SK
ki_keywords: ac dc power supply; ki_description: 5W Single Output EMC Class B 5V 1000mA; ki_fp_filters: Converter*ACDC*RECOM*RAC05*SK*; Footprint: Converter_ACDC:Converter_ACDC_RECOM_RAC05-xxSK_THT; Supplier: https://www.recom-power.com/pdf/Powerline-AC-DC/RAC05-K.pdf
footprint Converter_ACDC_RECOM_RAC05-xxSK_THT
pins: 1 AC(L) (power), 2 AC(N) (power), 3 NC (in) hidden, 4 -Vout (power), 5 +Vout (power)

## RAC05-12SK
designator *  value RAC05-12SK
ki_keywords: ac dc power supply; ki_description: 5W Single Output EMC Class B 12V 416mA; ki_fp_filters: Converter*ACDC*RECOM*RAC05*SK*; Footprint: Converter_ACDC:Converter_ACDC_RECOM_RAC05-xxSK_THT; Supplier: https://www.recom-power.com/pdf/Powerline-AC-DC/RAC05-K.pdf
footprint Converter_ACDC_RECOM_RAC05-xxSK_THT
pins: 1 AC(L) (power), 2 AC(N) (power), 3 NC (in) hidden, 4 -Vout (power), 5 +Vout (power)

## RAC05-15SK
designator *  value RAC05-15SK
ki_keywords: ac dc power supply; ki_description: 5W Single Output EMC Class B 15V 333mA; ki_fp_filters: Converter*ACDC*RECOM*RAC05*SK*; Footprint: Converter_ACDC:Converter_ACDC_RECOM_RAC05-xxSK_THT; Supplier: https://www.recom-power.com/pdf/Powerline-AC-DC/RAC05-K.pdf
footprint Converter_ACDC_RECOM_RAC05-xxSK_THT
pins: 1 AC(L) (power), 2 AC(N) (power), 3 NC (in) hidden, 4 -Vout (power), 5 +Vout (power)

## RAC05-24SK
designator *  value RAC05-24SK
ki_keywords: ac dc power supply; ki_description: 5W Single Output EMC Class B 24V 210mA; ki_fp_filters: Converter*ACDC*RECOM*RAC05*SK*; Footprint: Converter_ACDC:Converter_ACDC_RECOM_RAC05-xxSK_THT; Supplier: https://www.recom-power.com/pdf/Powerline-AC-DC/RAC05-K.pdf
footprint Converter_ACDC_RECOM_RAC05-xxSK_THT
pins: 1 AC(L) (power), 2 AC(N) (power), 3 NC (in) hidden, 4 -Vout (power), 5 +Vout (power)

## RAC20-05SK
designator *  value RAC20-05SK
ki_keywords: ac dc power supply; ki_description: 20 Watt Single Output AC/DC power supply 5V 4000mA; ki_fp_filters: Converter*ACDC*Recom*RAC20*SK*THT*; Footprint: Converter_ACDC:Converter_ACDC_Recom_RAC20-xxSK_THT; Supplier: https://recom-power.com/pdf/Powerline_AC-DC/RAC20-K.pdf
footprint Converter_ACDC_Recom_RAC20-xxSK_THT
pins: 1 AC(N) (power), 2 AC(L) (power), 4 -Vout (power), 5 +Vout (power)

## RAC20-12DK
designator *  value RAC20-12DK
ki_keywords: ac dc power supply; ki_description: 20 Watt Dual Output AC/DC power supply ±12V ±833mA; ki_fp_filters: Converter*ACDC*Recom*RAC20*DK*THT*; Footprint: Converter_ACDC:Converter_ACDC_Recom_RAC20-xxDK_THT; Supplier: https://recom-power.com/pdf/Powerline_AC-DC/RAC20-K.pdf
footprint Converter_ACDC_Recom_RAC20-xxDK_THT
pins: 1 AC(N) (power), 2 AC(L) (power), 3 -Vout (power), 4 Com (power), 5 +Vout (power)

## RAC20-12SK
designator *  value RAC20-12SK
ki_keywords: ac dc power supply; ki_description: 20 Watt Single Output AC/DC power supply 12V 1670mA; ki_fp_filters: Converter*ACDC*Recom*RAC20*SK*THT*; Footprint: Converter_ACDC:Converter_ACDC_Recom_RAC20-xxSK_THT; Supplier: https://recom-power.com/pdf/Powerline_AC-DC/RAC20-K.pdf
footprint Converter_ACDC_Recom_RAC20-xxSK_THT
pins: 1 AC(N) (power), 2 AC(L) (power), 4 -Vout (power), 5 +Vout (power)

## RAC20-15DK
designator *  value RAC20-15DK
ki_keywords: ac dc power supply; ki_description: 20 Watt Dual Output AC/DC power supply ±15V ±670mA; ki_fp_filters: Converter*ACDC*Recom*RAC20*DK*THT*; Footprint: Converter_ACDC:Converter_ACDC_Recom_RAC20-xxDK_THT; Supplier: https://recom-power.com/pdf/Powerline_AC-DC/RAC20-K.pdf
footprint Converter_ACDC_Recom_RAC20-xxDK_THT
pins: 1 AC(N) (power), 2 AC(L) (power), 3 -Vout (power), 4 Com (power), 5 +Vout (power)

## RAC20-15SK
designator *  value RAC20-15SK
ki_keywords: ac dc power supply; ki_description: 20 Watt Single Output AC/DC power supply 15V 1333mA; ki_fp_filters: Converter*ACDC*Recom*RAC20*SK*THT*; Footprint: Converter_ACDC:Converter_ACDC_Recom_RAC20-xxSK_THT; Supplier: https://recom-power.com/pdf/Powerline_AC-DC/RAC20-K.pdf
footprint Converter_ACDC_Recom_RAC20-xxSK_THT
pins: 1 AC(N) (power), 2 AC(L) (power), 4 -Vout (power), 5 +Vout (power)

## RAC20-24SK
designator *  value RAC20-24SK
ki_keywords: ac dc power supply; ki_description: 20 Watt Single Output AC/DC power supply 24V 840mA; ki_fp_filters: Converter*ACDC*Recom*RAC20*SK*THT*; Footprint: Converter_ACDC:Converter_ACDC_Recom_RAC20-xxSK_THT; Supplier: https://recom-power.com/pdf/Powerline_AC-DC/RAC20-K.pdf
footprint Converter_ACDC_Recom_RAC20-xxSK_THT
pins: 1 AC(N) (power), 2 AC(L) (power), 4 -Vout (power), 5 +Vout (power)

## RAC20-48SK
designator *  value RAC20-48SK
ki_keywords: ac dc power supply; ki_description: 20 Watt Single Output AC/DC power supply 48V 420mA; ki_fp_filters: Converter*ACDC*Recom*RAC20*SK*THT*; Footprint: Converter_ACDC:Converter_ACDC_Recom_RAC20-xxSK_THT; Supplier: https://recom-power.com/pdf/Powerline_AC-DC/RAC20-K.pdf
footprint Converter_ACDC_Recom_RAC20-xxSK_THT
pins: 1 AC(N) (power), 2 AC(L) (power), 4 -Vout (power), 5 +Vout (power)

## TMLM04103
designator *  value TMLM04103
ki_keywords: Traco Power 4W AC-DC module power supply; ki_description: 3.3V 1200mA AC/DC low noise power module; ki_fp_filters: Converter*ACDC*TRACO*TMLM*04*; Footprint: Converter_ACDC:Converter_ACDC_TRACO_TMLM-04_THT; Supplier: https://www.tracopower.com/products/tmlm.pdf
footprint Converter_ACDC_TRACO_TMLM-04_THT
pins: 2 Vout+ (power), 3 Vout- (power), 5 AC(L) (power), 6 AC(N) (power)

## TMLM04105
designator *  value TMLM04105
ki_keywords: Traco Power 4W AC-DC module power supply; ki_description: 5V 800mA AC/DC low noise power module; ki_fp_filters: Converter*ACDC*TRACO*TMLM*04*; Footprint: Converter_ACDC:Converter_ACDC_TRACO_TMLM-04_THT; Supplier: https://www.tracopower.com/products/tmlm.pdf
footprint Converter_ACDC_TRACO_TMLM-04_THT
pins: 2 Vout+ (power), 3 Vout- (power), 5 AC(L) (power), 6 AC(N) (power)

## TMLM04109
designator *  value TMLM04109
ki_keywords: Traco Power 4W AC-DC module power supply; ki_description: 9V 444mA AC/DC low noise power module; ki_fp_filters: Converter*ACDC*TRACO*TMLM*04*; Footprint: Converter_ACDC:Converter_ACDC_TRACO_TMLM-04_THT; Supplier: https://www.tracopower.com/products/tmlm.pdf
footprint Converter_ACDC_TRACO_TMLM-04_THT
pins: 2 Vout+ (power), 3 Vout- (power), 5 AC(L) (power), 6 AC(N) (power)

## TMLM04112
designator *  value TMLM04112
ki_keywords: Traco Power 4W AC-DC module power supply; ki_description: 12V 333mA AC/DC low noise power module; ki_fp_filters: Converter*ACDC*TRACO*TMLM*04*; Footprint: Converter_ACDC:Converter_ACDC_TRACO_TMLM-04_THT; Supplier: https://www.tracopower.com/products/tmlm.pdf
footprint Converter_ACDC_TRACO_TMLM-04_THT
pins: 2 Vout+ (power), 3 Vout- (power), 5 AC(L) (power), 6 AC(N) (power)

## TMLM04115
designator *  value TMLM04115
ki_keywords: Traco Power 4W AC-DC module power supply; ki_description: 15V 267mA AC/DC low noise power module; ki_fp_filters: Converter*ACDC*TRACO*TMLM*04*; Footprint: Converter_ACDC:Converter_ACDC_TRACO_TMLM-04_THT; Supplier: https://www.tracopower.com/products/tmlm.pdf
footprint Converter_ACDC_TRACO_TMLM-04_THT
pins: 2 Vout+ (power), 3 Vout- (power), 5 AC(L) (power), 6 AC(N) (power)

## TMLM04124
designator *  value TMLM04124
ki_keywords: Traco Power 4W AC-DC module power supply; ki_description: 24V 167mA AC/DC low noise power module; ki_fp_filters: Converter*ACDC*TRACO*TMLM*04*; Footprint: Converter_ACDC:Converter_ACDC_TRACO_TMLM-04_THT; Supplier: https://www.tracopower.com/products/tmlm.pdf
footprint Converter_ACDC_TRACO_TMLM-04_THT
pins: 2 Vout+ (power), 3 Vout- (power), 5 AC(L) (power), 6 AC(N) (power)

## TMLM04225
designator *  value TMLM04225
ki_keywords: Traco Power 4W AC-DC module power supply; ki_description: 12V 250mA / 5V 120mA AC/DC dual output, low noise power module; ki_fp_filters: Converter*ACDC*TRACO*TMLM*04*; Footprint: Converter_ACDC:Converter_ACDC_TRACO_TMLM-04_THT; Supplier: https://www.tracopower.com/products/tmlm.pdf
footprint Converter_ACDC_TRACO_TMLM-04_THT
pins: 2 Vout1 (power), 3 Common (power), 4 Vout2 (power), 5 AC(L) (power), 6 AC(N) (power)

## TMLM04253
designator *  value TMLM04253
ki_keywords: Traco Power 4W AC-DC module power supply; ki_description: 5V 600mA / 3.3V 150mA AC/DC dual output, low noise power module; ki_fp_filters: Converter*ACDC*TRACO*TMLM*04*; Footprint: Converter_ACDC:Converter_ACDC_TRACO_TMLM-04_THT; Supplier: https://www.tracopower.com/products/tmlm.pdf
footprint Converter_ACDC_TRACO_TMLM-04_THT
pins: 2 Vout1 (power), 3 Common (power), 4 Vout2 (power), 5 AC(L) (power), 6 AC(N) (power)

## TMLM05103
designator *  value TMLM05103
ki_keywords: Traco Power 5W AC-DC module power supply; ki_description: 3.3V 1250mA AC/DC low noise power module; ki_fp_filters: Converter*ACDC*TRACO*TMLM*05*; Footprint: Converter_ACDC:Converter_ACDC_TRACO_TMLM-05_THT; Supplier: https://www.tracopower.com/products/tmlm.pdf
footprint Converter_ACDC_TRACO_TMLM-05_THT
pins: 1 Vout- (power), 2 Vout+ (power), 3 AC (power), 4 AC (power)

## TMLM05105
designator *  value TMLM05105
ki_keywords: Traco Power 5W AC-DC module power supply; ki_description: 5V 1000mA AC/DC low noise power module; ki_fp_filters: Converter*ACDC*TRACO*TMLM*05*; Footprint: Converter_ACDC:Converter_ACDC_TRACO_TMLM-05_THT; Supplier: https://www.tracopower.com/products/tmlm.pdf
footprint Converter_ACDC_TRACO_TMLM-05_THT
pins: 1 Vout- (power), 2 Vout+ (power), 3 AC (power), 4 AC (power)

## TMLM05112
designator *  value TMLM05112
ki_keywords: Traco Power 5W AC-DC module power supply; ki_description: 12V 420mA AC/DC low noise power module; ki_fp_filters: Converter*ACDC*TRACO*TMLM*05*; Footprint: Converter_ACDC:Converter_ACDC_TRACO_TMLM-05_THT; Supplier: https://www.tracopower.com/products/tmlm.pdf
footprint Converter_ACDC_TRACO_TMLM-05_THT
pins: 1 Vout- (power), 2 Vout+ (power), 3 AC (power), 4 AC (power)

## TMLM05115
designator *  value TMLM05115
ki_keywords: Traco Power 5W AC-DC module power supply; ki_description: 15V 333mA AC/DC low noise power module; ki_fp_filters: Converter*ACDC*TRACO*TMLM*05*; Footprint: Converter_ACDC:Converter_ACDC_TRACO_TMLM-05_THT; Supplier: https://www.tracopower.com/products/tmlm.pdf
footprint Converter_ACDC_TRACO_TMLM-05_THT
pins: 1 Vout- (power), 2 Vout+ (power), 3 AC (power), 4 AC (power)

## TMLM05124
designator *  value TMLM05124
ki_keywords: Traco Power 5W AC-DC module power supply; ki_description: 24V 230mA AC/DC low noise power module; ki_fp_filters: Converter*ACDC*TRACO*TMLM*05*; Footprint: Converter_ACDC:Converter_ACDC_TRACO_TMLM-05_THT; Supplier: https://www.tracopower.com/products/tmlm.pdf
footprint Converter_ACDC_TRACO_TMLM-05_THT
pins: 1 Vout- (power), 2 Vout+ (power), 3 AC (power), 4 AC (power)

## TMLM10103
designator *  value TMLM10103
ki_keywords: Traco Power 10W AC-DC module power supply; ki_description: 3.3V 2500mA AC/DC low noise power module; ki_fp_filters: Converter*ACDC*TRACO*TMLM*10*; Footprint: Converter_ACDC:Converter_ACDC_TRACO_TMLM-10-20_THT; Supplier: https://www.tracopower.com/products/tmlm.pdf
footprint Converter_ACDC_TRACO_TMLM-10-20_THT
pins: 1 Vout- (power), 2 Vout+ (power), 3 AC (power), 4 AC (power)

## TMLM10105
designator *  value TMLM10105
ki_keywords: Traco Power 10W AC-DC module power supply; ki_description: 5V 2000mA AC/DC low noise power module; ki_fp_filters: Converter*ACDC*TRACO*TMLM*10*; Footprint: Converter_ACDC:Converter_ACDC_TRACO_TMLM-10-20_THT; Supplier: https://www.tracopower.com/products/tmlm.pdf
footprint Converter_ACDC_TRACO_TMLM-10-20_THT
pins: 1 Vout- (power), 2 Vout+ (power), 3 AC (power), 4 AC (power)